# EAGLE library part 6-GW-8 (library radiotubes)
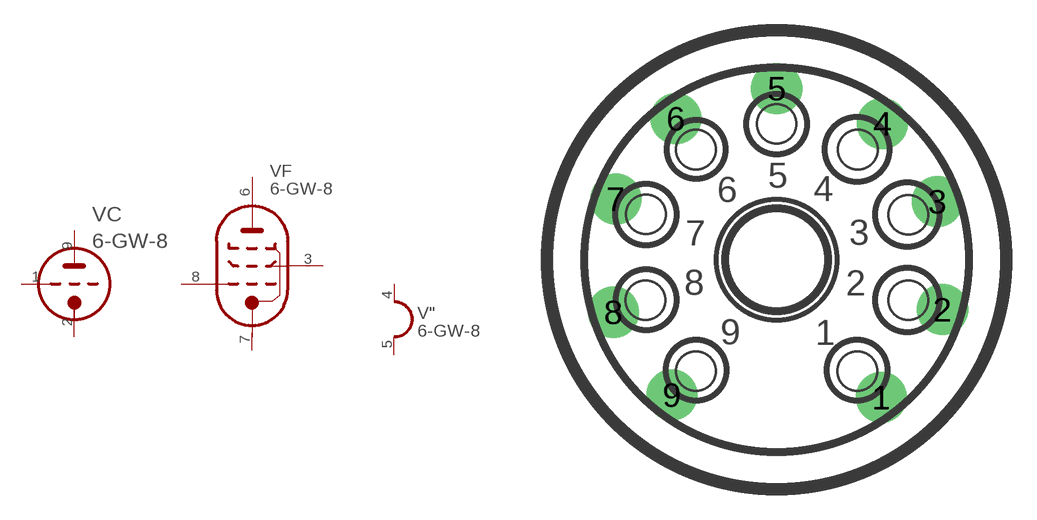
[diagram p53: symbol with the pads of NOVAL; footprint NOVAL]

Designator prefix V; gates C=TRIODE F=PENTODE "=HEATER_1

## 6-GW-8  [NOVAL]
1  C:G  pas
2  C:K  pas
3  F:PSG  pas
4  ":H1  pas
5  ":H2  pas
6  F:PA  pas
7  F:PK  pas
8  F:PG  pas
9  C:A  pas

## Footprint NOVAL (pad centres in mm)
drill 1.422 pad 2.54: 1 5.207,-6.858; 2 8.254,-2.484; 3 8.004,2.893; 4 5.258,6.77; 5 0,8.524; 6 -5.004,7.024; 7 -8.004,3.02; 8 -8.127,-2.611; 9 -5.207,-6.731